# Altium integrated library MTSW-104-07-T-S-190.IntLib: 1 symbol
Pins are listed as number, name and electrical type; pins without a type are passive.

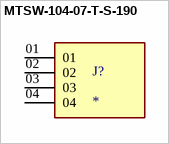
[diagram p0: symbol MTSW-104-07-T-S-190]

## MTSW-104-07-T-S-190
designator J?
MP: MTSW-104-07-T-S-190; Value: *; Package: None; Price: None; Availability: Unavailable
footprint SAMTEC_MTSW-104-07-T-S-190
pins: 01, 02, 03, 04